# EAGLE library part HCPL-063N (library isolation)
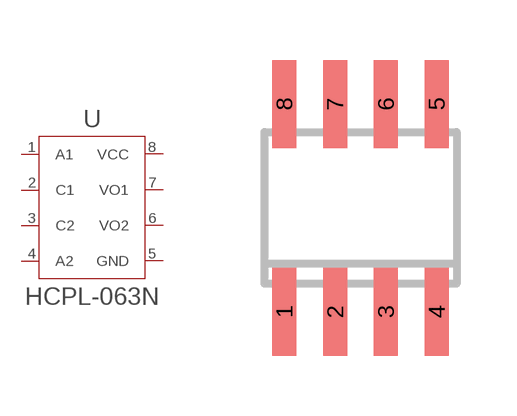
[diagram p0: symbol with the pads of SO8; footprint SO8]

Designator prefix U

## HCPL-063N  [SO8]
1  A1  in
2  C1  in
3  C2  in
4  A2  in
5  GND  pwr
6  VO2  out
7  VO1  out
8  VCC  pwr

## Footprint SO8 (pad centres in mm)
SMALL OUTLINE INTEGRATED CIRCUIT
smd 0.6 x 2.2: 1 -1.905,-2.6; 2 -0.635,-2.6; 3 0.635,-2.6; 4 1.905,-2.6; 5 1.905,2.6; 6 0.635,2.6; 7 -0.635,2.6; 8 -1.905,2.6